# Altium footprint library Connectors.PcbLib: 3 footprints
Each footprint in its own frame and in the unit in brackets; x right, y up, seen from the top. Pads: shape width x height; smd on the part's side, far side on the other; paste and mask are expansions set on the pad; w line width, h text height; cw(c..) or ccw(c..) is an arc to the next point about the centre after c.
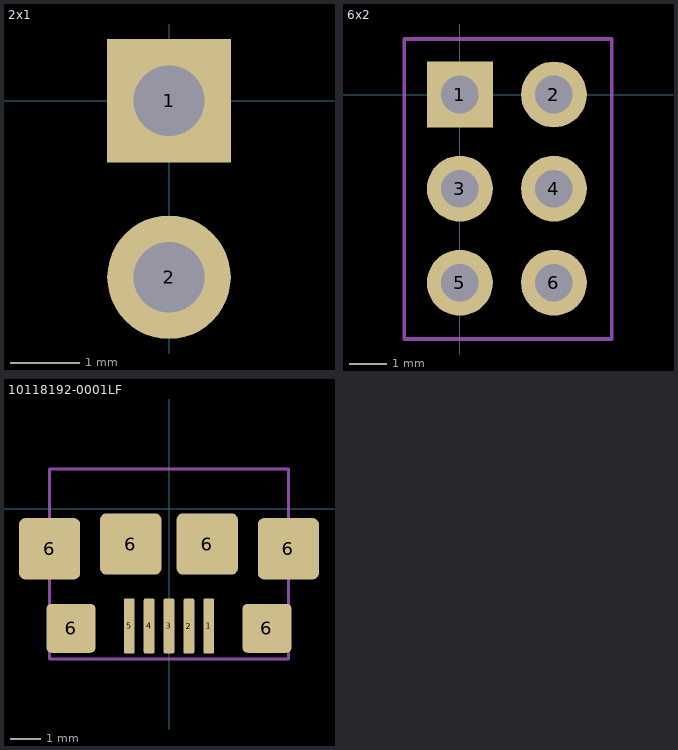
[diagram p0: the footprints below, top view; thin cyan lines are the x and y axes]

## 2x1 [mil]
pads (2):
  rect 70x70 hole 40 paste-3897.64: 1(0,0)
  round 70 hole 40 paste-3897.64: 2(0,-100)
3D body "m20-9990245_asm.stp": height 338.58, standoff -121.26, extent -50,-150 50,50

## 6x2 [mil]
pads (6):
  rect 70x70 hole 40 paste-3897.64: 1(0,0)
  round 70 hole 40 paste-3897.64: 2(100,0) 3(0,-100) 4(100,-100) 5(0,-200) 6(100,-200)
Assembly:
  lines w3.94: -59.06,-259.84 161.42,-259.84 161.42,-236.22 161.42,59.06 -59.06,59.06 -59.06,-259.84
  text ".Designator" at 62.99,-224.41 h59.06
3D body "PR(E,P)C003DAAN-RC.stp": height 329.79, standoff -117.83, extent -50,-250 150,50

## 10118192-0001LF [mm]
pads (11):
  rrect30% 0.35x1.8 smd paste-0.04 mask+0.07: 1(1.3,-3.825) 2(0.65,-3.828) 3(0,-3.825) 4(-0.65,-3.825) 5(-1.3,-3.825)
  rrect20% 2x2 smd paste-0.3: 6(-3.9,-1.3) 6(-1.25,-1.147) 6(1.25,-1.147) 6(3.9,-1.3)
  rrect20% 1.6x1.6 smd paste-0.3: 6(-3.2,-3.9) 6(3.2,-3.9)
Assembly:
  lines w0.1: -3.9,-4.9 3.9,-4.9 3.9,1.3 -3.9,1.3 -3.9,-4.9
  text ".Designator" at -2.4,-0.2 h1.1
3D body "10118192C.stp": height 2.79, standoff -0.22, extent -3.956,-4.361 3.956,1.3